# Altium footprint library PT_4PIN_3.5mm.PcbLib: 1 footprints
Each footprint in its own frame and in the unit in brackets; x right, y up, seen from the top. Pads: shape width x height; smd on the part's side, far side on the other; paste and mask are expansions set on the pad; w line width, h text height; cw(c..) or ccw(c..) is an arc to the next point about the centre after c.
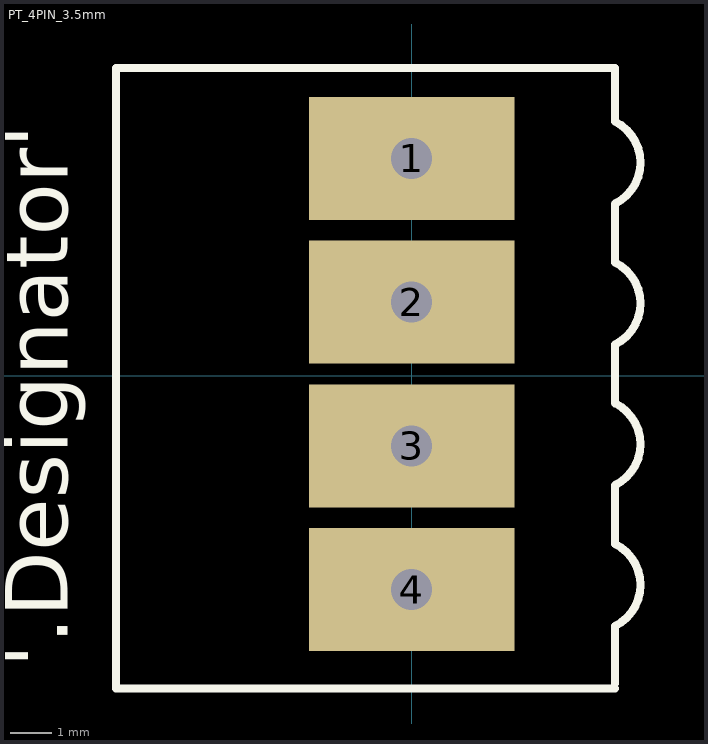
[diagram p0: the footprint, top view; thin cyan lines are the x and y axes]

## PT_4PIN_3.5mm [mm]
pads (4):
  rect 5x3 hole 1: 1(0,5.293) 2(0,1.793) 3(0,-1.707) 4(0,-5.207)
Top Overlay:
  lines w0.2: 4.953,-7.62 -7.2,-7.62 -7.2,7.493 4.826,7.493 4.953,7.493 4.953,6.604 4.953,6.191 cw(c4.459,5.191) 4.953,4.191 4.953,2.794 ; 4.953,-7.493 4.953,-6.096 ccw(c4.459,-5.096) 4.953,-4.096 ; 4.953,-4.064 4.953,-2.667 ccw(c4.459,-1.667) 4.953,-0.667 ; 4.953,-0.635 4.953,0.762 ccw(c4.459,1.762) 4.953,2.762
  text "'.Designator'" at -8.382,-7.112 h1.52
3D body "PT_4_PIn_3.5.STEP": height 14.01, standoff -3.24, extent -6.985,-7 5.015,7